# Altium schematic symbol library PBL - Screens.SchLib: 1 symbol
Pins are listed as number, name and electrical type; pins without a type are passive.

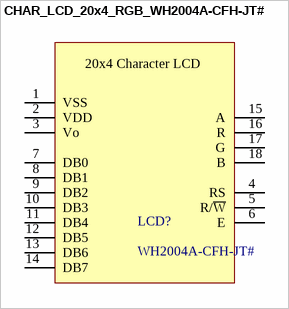
[diagram p0: symbol CHAR_LCD_20x4_RGB_WH2004A-CFH-JT#]

## CHAR_LCD_20x4_RGB_WH2004A-CFH-JT#
designator LCD?, comment WH2004A-CFH-JT#
ADAFRUIT RGB backlight positive LCD 20x4 + extras - black on RGB
footprint 20x4 RGB Character LCD
pins: 1 VSS, 2 VDD, 3 Vo, 4 RS, 5 R/~{W}, 6 E, 7 DB0, 8 DB1, 9 DB2, 10 DB3, 11 DB4, 12 DB5, 13 DB6, 14 DB7, 15 A, 16 R, 17 G, 18 B
text: 20x4 Character LCD